# Altium footprint library PCB - RESISTOR - CHIP - RTD 0805_2012.PCBLIB: 1 footprints
Each footprint in its own frame and in the unit in brackets; x right, y up, seen from the top. Pads: shape width x height; smd on the part's side, far side on the other; paste and mask are expansions set on the pad; w line width, h text height; cw(c..) or ccw(c..) is an arc to the next point about the centre after c.
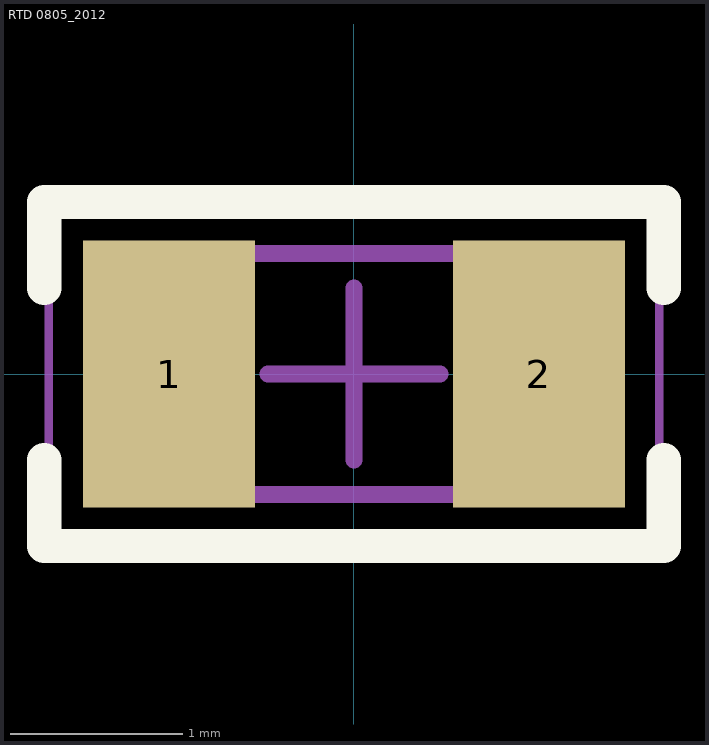
[diagram p0: the footprint, top view; thin cyan lines are the x and y axes]

## RTD 0805_2012 [mm] "1 kOhms RTD Platinum ±0.3% ±3850ppm/°C -50°C ~ 130°C, 2-Leads, Body 2.30x1.40mm, IPC Medium Density"
height 0.6
pads (2):
  rect 1x1.55 smd: 1(-1.075,0) 2(1.075,0)
Top Overlay:
  lines w0.2: -1.8,-0.5 -1.8,-1 1.8,-1 1.8,-0.5 ; -1.8,0.5 -1.8,1 1.8,1 1.8,0.5
Top Courtyard:
  lines w0.05: -1.775,-0.975 -1.775,0.975 1.775,0.975 1.775,-0.975 -1.775,-0.975
  lines w0.1: -0.5,0 0.5,0 ; 0,-0.5 0,0.5
Top 3D Body:
  lines w0.1: -1.15,-0.7 -1.15,0.7 1.15,0.7 1.15,-0.7 -1.15,-0.7
3D body "RTD 0805_2012.step": height 0.6, standoff 0, extent -1.15,-0.7 1.15,0.7